# Altium footprint library IC_Texas_Instruments_TPS65218B1RSLT_eec_0.PcbLib: 1 footprints
Each footprint in its own frame and in the unit in brackets; x right, y up, seen from the top. Pads: shape width x height; smd on the part's side, far side on the other; paste and mask are expansions set on the pad; w line width, h text height; cw(c..) or ccw(c..) is an arc to the next point about the centre after c.
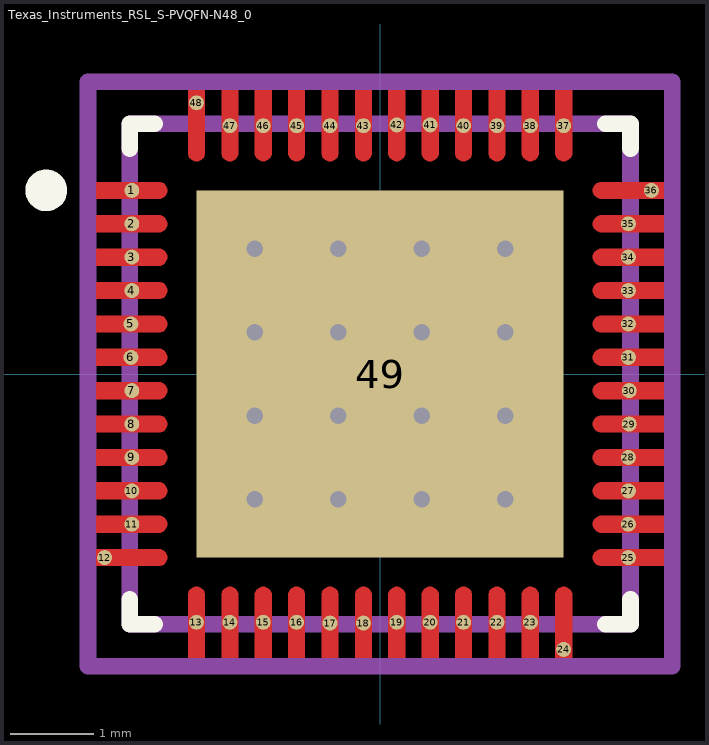
[diagram p0: the footprint, top view; thin cyan lines are the x and y axes]

## Texas_Instruments_RSL_S-PVQFN-N48_0 [mm]
pads (49):
  round 0.18 smd paste-1000 mask+0: 1(-2.975,2.2) 2(-2.975,1.8) 3(-2.975,1.4) 4(-2.975,1) 5(-2.985,0.6) 6(-2.985,0.2) 7(-2.975,-0.2) 8(-2.975,-0.6) 9(-2.975,-1) 10(-2.975,-1.4) 11(-2.975,-1.8) 12(-3.3,-2.2) 13(-2.2,-2.975) 14(-1.8,-2.975) 15(-1.4,-2.975) 16(-1,-2.975) 17(-0.6,-2.985) 18(-0.2,-2.985) 19(0.2,-2.975) 20(0.6,-2.975) 21(1,-2.975) 22(1.4,-2.975) 23(1.8,-2.975) 24(2.2,-3.3) 25(2.975,-2.2) 26(2.975,-1.8) 27(2.975,-1.4) 28(2.975,-1) 29(2.985,-0.6) 30(2.985,-0.2) 31(2.975,0.2) 32(2.975,0.6) 33(2.975,1) 34(2.975,1.4) 35(2.975,1.8) 36(3.25,2.2) 37(2.2,2.975) 38(1.8,2.975) 39(1.4,2.975) 40(1,2.975) 41(0.6,2.985) 42(0.2,2.985) 43(-0.2,2.975) 44(-0.6,2.975) 45(-1,2.975) 46(-1.4,2.975) 47(-1.8,2.975) 48(-2.2,3.25)
  rect 4.4x4.4 smd paste-1000 mask+0: 49(0,0)
via -1.5,1.5 diameter 0.5 hole 0.2
via -0.5,1.5 diameter 0.5 hole 0.2
via 0.5,1.5 diameter 0.5 hole 0.2
via 1.5,1.5 diameter 0.5 hole 0.2
via -1.5,0.5 diameter 0.5 hole 0.2
via -0.5,0.5 diameter 0.5 hole 0.2
via 0.5,0.5 diameter 0.5 hole 0.2
via 1.5,0.5 diameter 0.5 hole 0.2
via -1.5,-0.5 diameter 0.5 hole 0.2
via -0.5,-0.5 diameter 0.5 hole 0.2
via 0.5,-0.5 diameter 0.5 hole 0.2
via 1.5,-0.5 diameter 0.5 hole 0.2
via -1.5,-1.5 diameter 0.5 hole 0.2
via -0.5,-1.5 diameter 0.5 hole 0.2
via 0.5,-1.5 diameter 0.5 hole 0.2
via 1.5,-1.5 diameter 0.5 hole 0.2
Top Layer:
  region: -3.4,2.3 -2.65,2.3 -2.63,2.3 -2.593,2.285 -2.565,2.257 -2.55,2.22 -2.55,2.2 -2.55,2.18 -2.565,2.143 -2.593,2.115 -2.63,2.1 -2.65,2.1 -3.4,2.1
  region: -3.4,1.9 -2.65,1.9 -2.63,1.9 -2.593,1.885 -2.565,1.857 -2.55,1.82 -2.55,1.8 -2.55,1.78 -2.565,1.743 -2.593,1.715 -2.63,1.7 -2.65,1.7 -3.4,1.7
  region: -3.4,1.5 -2.65,1.5 -2.63,1.5 -2.593,1.485 -2.565,1.457 -2.55,1.42 -2.55,1.4 -2.55,1.38 -2.565,1.343 -2.593,1.315 -2.63,1.3 -2.65,1.3 -3.4,1.3
  region: -3.4,1.1 -2.65,1.1 -2.63,1.1 -2.593,1.085 -2.565,1.057 -2.55,1.02 -2.55,1 -2.55,0.98 -2.565,0.943 -2.593,0.915 -2.63,0.9 -2.65,0.9 -3.4,0.9
  region: -3.4,0.7 -2.65,0.7 -2.63,0.7 -2.593,0.685 -2.565,0.657 -2.55,0.62 -2.55,0.6 -2.55,0.58 -2.565,0.543 -2.593,0.515 -2.63,0.5 -2.65,0.5 -3.4,0.5
  region: -3.4,0.3 -2.65,0.3 -2.63,0.3 -2.593,0.285 -2.565,0.257 -2.55,0.22 -2.55,0.2 -2.55,0.18 -2.565,0.143 -2.593,0.115 -2.63,0.1 -2.65,0.1 -3.4,0.1
  region: -3.4,-0.1 -2.65,-0.1 -2.63,-0.1 -2.593,-0.115 -2.565,-0.143 -2.55,-0.18 -2.55,-0.2 -2.55,-0.22 -2.565,-0.257 -2.593,-0.285 -2.63,-0.3 -2.65,-0.3 -3.4,-0.3
  region: -3.4,-0.5 -2.65,-0.5 -2.63,-0.5 -2.593,-0.515 -2.565,-0.543 -2.55,-0.58 -2.55,-0.6 -2.55,-0.62 -2.565,-0.657 -2.593,-0.685 -2.63,-0.7 -2.65,-0.7 -3.4,-0.7
  region: -3.4,-0.9 -2.65,-0.9 -2.63,-0.9 -2.593,-0.915 -2.565,-0.943 -2.55,-0.98 -2.55,-1 -2.55,-1.02 -2.565,-1.057 -2.593,-1.085 -2.63,-1.1 -2.65,-1.1 -3.4,-1.1
  region: -3.4,-1.3 -2.65,-1.3 -2.63,-1.3 -2.593,-1.315 -2.565,-1.343 -2.55,-1.38 -2.55,-1.4 -2.55,-1.42 -2.565,-1.457 -2.593,-1.485 -2.63,-1.5 -2.65,-1.5 -3.4,-1.5
  region: -3.4,-1.7 -2.65,-1.7 -2.63,-1.7 -2.593,-1.715 -2.565,-1.743 -2.55,-1.78 -2.55,-1.8 -2.55,-1.82 -2.565,-1.857 -2.593,-1.885 -2.63,-1.9 -2.65,-1.9 -3.4,-1.9
  region: -3.4,-2.1 -2.65,-2.1 -2.63,-2.1 -2.593,-2.115 -2.565,-2.143 -2.55,-2.18 -2.55,-2.2 -2.55,-2.22 -2.565,-2.257 -2.593,-2.285 -2.63,-2.3 -2.65,-2.3 -3.4,-2.3
  region: 3.4,-2.3 2.65,-2.3 2.63,-2.3 2.593,-2.285 2.565,-2.257 2.55,-2.22 2.55,-2.2 2.55,-2.18 2.565,-2.143 2.593,-2.115 2.63,-2.1 2.65,-2.1 3.4,-2.1
  region: 3.4,-1.9 2.65,-1.9 2.63,-1.9 2.593,-1.885 2.565,-1.857 2.55,-1.82 2.55,-1.8 2.55,-1.78 2.565,-1.743 2.593,-1.715 2.63,-1.7 2.65,-1.7 3.4,-1.7
  region: 3.4,-1.5 2.65,-1.5 2.63,-1.5 2.593,-1.485 2.565,-1.457 2.55,-1.42 2.55,-1.4 2.55,-1.38 2.565,-1.343 2.593,-1.315 2.63,-1.3 2.65,-1.3 3.4,-1.3
  region: 3.4,-1.1 2.65,-1.1 2.63,-1.1 2.593,-1.085 2.565,-1.057 2.55,-1.02 2.55,-1 2.55,-0.98 2.565,-0.943 2.593,-0.915 2.63,-0.9 2.65,-0.9 3.4,-0.9
  region: 3.4,-0.7 2.65,-0.7 2.63,-0.7 2.593,-0.685 2.565,-0.657 2.55,-0.62 2.55,-0.6 2.55,-0.58 2.565,-0.543 2.593,-0.515 2.63,-0.5 2.65,-0.5 3.4,-0.5
  region: 3.4,-0.3 2.65,-0.3 2.63,-0.3 2.593,-0.285 2.565,-0.257 2.55,-0.22 2.55,-0.2 2.55,-0.18 2.565,-0.143 2.593,-0.115 2.63,-0.1 2.65,-0.1 3.4,-0.1
  region: 3.4,0.1 2.65,0.1 2.63,0.1 2.593,0.115 2.565,0.143 2.55,0.18 2.55,0.2 2.55,0.22 2.565,0.257 2.593,0.285 2.63,0.3 2.65,0.3 3.4,0.3
  region: 3.4,0.5 2.65,0.5 2.63,0.5 2.593,0.515 2.565,0.543 2.55,0.58 2.55,0.6 2.55,0.62 2.565,0.657 2.593,0.685 2.63,0.7 2.65,0.7 3.4,0.7
  region: 3.4,0.9 2.65,0.9 2.63,0.9 2.593,0.915 2.565,0.943 2.55,0.98 2.55,1 2.55,1.02 2.565,1.057 2.593,1.085 2.63,1.1 2.65,1.1 3.4,1.1
  region: 3.4,1.3 2.65,1.3 2.63,1.3 2.593,1.315 2.565,1.343 2.55,1.38 2.55,1.4 2.55,1.42 2.565,1.457 2.593,1.485 2.63,1.5 2.65,1.5 3.4,1.5
  region: 3.4,1.7 2.65,1.7 2.63,1.7 2.593,1.715 2.565,1.743 2.55,1.78 2.55,1.8 2.55,1.82 2.565,1.857 2.593,1.885 2.63,1.9 2.65,1.9 3.4,1.9
  region: 3.4,2.1 2.65,2.1 2.63,2.1 2.593,2.115 2.565,2.143 2.55,2.18 2.55,2.2 2.55,2.22 2.565,2.257 2.593,2.285 2.63,2.3 2.65,2.3 3.4,2.3
  region: -2.3,-3.4 -2.3,-2.65 -2.3,-2.63 -2.285,-2.593 -2.257,-2.565 -2.22,-2.55 -2.2,-2.55 -2.18,-2.55 -2.143,-2.565 -2.115,-2.593 -2.1,-2.63 -2.1,-2.65 -2.1,-3.4
  region: -1.9,-3.4 -1.9,-2.65 -1.9,-2.63 -1.885,-2.593 -1.857,-2.565 -1.82,-2.55 -1.8,-2.55 -1.78,-2.55 -1.743,-2.565 -1.715,-2.593 -1.7,-2.63 -1.7,-2.65 -1.7,-3.4
  region: -1.5,-3.4 -1.5,-2.65 -1.5,-2.63 -1.485,-2.593 -1.457,-2.565 -1.42,-2.55 -1.4,-2.55 -1.38,-2.55 -1.343,-2.565 -1.315,-2.593 -1.3,-2.63 -1.3,-2.65 -1.3,-3.4
  region: -1.1,-3.4 -1.1,-2.65 -1.1,-2.63 -1.085,-2.593 -1.057,-2.565 -1.02,-2.55 -1,-2.55 -0.98,-2.55 -0.943,-2.565 -0.915,-2.593 -0.9,-2.63 -0.9,-2.65 -0.9,-3.4
  region: -0.7,-3.4 -0.7,-2.65 -0.7,-2.63 -0.685,-2.593 -0.657,-2.565 -0.62,-2.55 -0.6,-2.55 -0.58,-2.55 -0.543,-2.565 -0.515,-2.593 -0.5,-2.63 -0.5,-2.65 -0.5,-3.4
  region: -0.3,-3.4 -0.3,-2.65 -0.3,-2.63 -0.285,-2.593 -0.257,-2.565 -0.22,-2.55 -0.2,-2.55 -0.18,-2.55 -0.143,-2.565 -0.115,-2.593 -0.1,-2.63 -0.1,-2.65 -0.1,-3.4
  region: 0.1,-3.4 0.1,-2.65 0.1,-2.63 0.115,-2.593 0.143,-2.565 0.18,-2.55 0.2,-2.55 0.22,-2.55 0.257,-2.565 0.285,-2.593 0.3,-2.63 0.3,-2.65 0.3,-3.4
  region: 0.5,-3.4 0.5,-2.65 0.5,-2.63 0.515,-2.593 0.543,-2.565 0.58,-2.55 0.6,-2.55 0.62,-2.55 0.657,-2.565 0.685,-2.593 0.7,-2.63 0.7,-2.65 0.7,-3.4
  region: 0.9,-3.4 0.9,-2.65 0.9,-2.63 0.915,-2.593 0.943,-2.565 0.98,-2.55 1,-2.55 1.02,-2.55 1.057,-2.565 1.085,-2.593 1.1,-2.63 1.1,-2.65 1.1,-3.4
  region: 1.3,-3.4 1.3,-2.65 1.3,-2.63 1.315,-2.593 1.343,-2.565 1.38,-2.55 1.4,-2.55 1.42,-2.55 1.457,-2.565 1.485,-2.593 1.5,-2.63 1.5,-2.65 1.5,-3.4
  region: 1.7,-3.4 1.7,-2.65 1.7,-2.63 1.715,-2.593 1.743,-2.565 1.78,-2.55 1.8,-2.55 1.82,-2.55 1.857,-2.565 1.885,-2.593 1.9,-2.63 1.9,-2.65 1.9,-3.4
  region: 2.1,-3.4 2.1,-2.65 2.1,-2.63 2.115,-2.593 2.143,-2.565 2.18,-2.55 2.2,-2.55 2.22,-2.55 2.257,-2.565 2.285,-2.593 2.3,-2.63 2.3,-2.65 2.3,-3.4
  region: 2.3,3.4 2.3,2.65 2.3,2.63 2.285,2.593 2.257,2.565 2.22,2.55 2.2,2.55 2.18,2.55 2.143,2.565 2.115,2.593 2.1,2.63 2.1,2.65 2.1,3.4
  region: 1.9,3.4 1.9,2.65 1.9,2.63 1.885,2.593 1.857,2.565 1.82,2.55 1.8,2.55 1.78,2.55 1.743,2.565 1.715,2.593 1.7,2.63 1.7,2.65 1.7,3.4
  region: 1.5,3.4 1.5,2.65 1.5,2.63 1.485,2.593 1.457,2.565 1.42,2.55 1.4,2.55 1.38,2.55 1.343,2.565 1.315,2.593 1.3,2.63 1.3,2.65 1.3,3.4
  region: 1.1,3.4 1.1,2.65 1.1,2.63 1.085,2.593 1.057,2.565 1.02,2.55 1,2.55 0.98,2.55 0.943,2.565 0.915,2.593 0.9,2.63 0.9,2.65 0.9,3.4
  region: 0.7,3.4 0.7,2.65 0.7,2.63 0.685,2.593 0.657,2.565 0.62,2.55 0.6,2.55 0.58,2.55 0.543,2.565 0.515,2.593 0.5,2.63 0.5,2.65 0.5,3.4
  region: 0.3,3.4 0.3,2.65 0.3,2.63 0.285,2.593 0.257,2.565 0.22,2.55 0.2,2.55 0.18,2.55 0.143,2.565 0.115,2.593 0.1,2.63 0.1,2.65 0.1,3.4
  region: -0.1,3.4 -0.1,2.65 -0.1,2.63 -0.115,2.593 -0.143,2.565 -0.18,2.55 -0.2,2.55 -0.22,2.55 -0.257,2.565 -0.285,2.593 -0.3,2.63 -0.3,2.65 -0.3,3.4
  region: -0.5,3.4 -0.5,2.65 -0.5,2.63 -0.515,2.593 -0.543,2.565 -0.58,2.55 -0.6,2.55 -0.62,2.55 -0.657,2.565 -0.685,2.593 -0.7,2.63 -0.7,2.65 -0.7,3.4
  region: -0.9,3.4 -0.9,2.65 -0.9,2.63 -0.915,2.593 -0.943,2.565 -0.98,2.55 -1,2.55 -1.02,2.55 -1.057,2.565 -1.085,2.593 -1.1,2.63 -1.1,2.65 -1.1,3.4
  region: -1.3,3.4 -1.3,2.65 -1.3,2.63 -1.315,2.593 -1.343,2.565 -1.38,2.55 -1.4,2.55 -1.42,2.55 -1.457,2.565 -1.485,2.593 -1.5,2.63 -1.5,2.65 -1.5,3.4
  region: -1.7,3.4 -1.7,2.65 -1.7,2.63 -1.715,2.593 -1.743,2.565 -1.78,2.55 -1.8,2.55 -1.82,2.55 -1.857,2.565 -1.885,2.593 -1.9,2.63 -1.9,2.65 -1.9,3.4
  region: -2.1,3.4 -2.1,2.65 -2.1,2.63 -2.115,2.593 -2.143,2.565 -2.18,2.55 -2.2,2.55 -2.22,2.55 -2.257,2.565 -2.285,2.593 -2.3,2.63 -2.3,2.65 -2.3,3.4
Top Overlay:
  circle w0.25: c-4,2.2 r0.125
  lines w0.2: -3,-2.7 -3,-3 -2.7,-3 ; -3,2.7 -3,3 -2.7,3 ; 2.7,-3 3,-3 3,-2.7 ; 2.7,3 3,3 3,2.7
Top Paste:
  drawing of 57 lines, arcs and shapes, not listed
Mechanical 10:
  lines w0.2: -3.5,-3.5 3.5,-3.5 3.5,3.5 -3.5,3.5 -3.5,-3.5
  text ".Designator" at 0,0.188 h1
Mechanical 12:
  lines w0.2: -3,-3 3,-3 3,3 -3,3 -3,-3
Mechanical 15:
  lines w0.1: -0.5,0 0.5,0 ; 0,-0.5 0,0.5
  lines w0.2: -3.5,-3.5 3.5,-3.5 3.5,3.5 -3.5,3.5 -3.5,-3.5
3D body "IC_Texas_Instruments_TPS65218B1RSLT_eec.STEP": height 0.25, standoff 0, extent -3.5,-3.5 3.5,3.5